# Altium schematic symbol library CurrentSenseResistor100Ohm.SchLib: 1 symbol
Pins are listed as number, name and electrical type; pins without a type are passive.

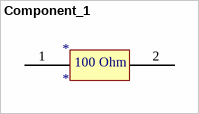
[diagram p0: symbol Component_1]

## Component_1
designator *
pins: 1 (power), 2 (power)
text: 100 Ohm